# EAGLE library part ICM-20689 (library kiks-ic)
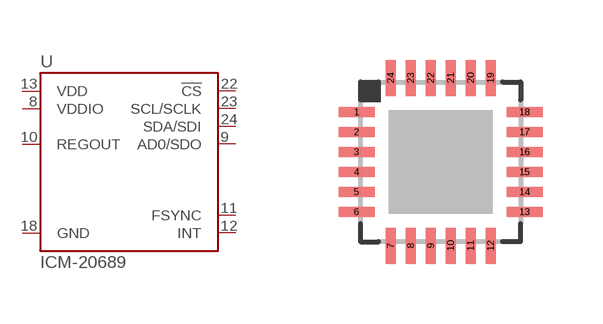
[diagram p17: symbol with the pads of QFN24-0.5-INVEN; footprint QFN24-0.5-INVEN]

Designator prefix U

## ICM-20689  [QFN24-0.5-INVEN]
8  VDDIO
9  AD0/SDO
10  REGOUT
11  FSYNC
12  INT
13  VDD
18  GND
22  !CS
23  SCL/SCLK
24  SDA/SDI

## Footprint QFN24-0.5-INVEN (pad centres in mm)
smd 0.9 x 0.25: 1 -2.1,1.25; 2 -2.1,0.75; 3 -2.1,0.25; 4 -2.1,-0.25; 5 -2.1,-0.75; 6 -2.1,-1.25; 13 2.1,-1.25; 14 2.1,-0.75; 15 2.1,-0.25; 16 2.1,0.25; 17 2.1,0.75; 18 2.1,1.25
smd 0.25 x 0.9: 7 -1.25,-2.1; 8 -0.75,-2.1; 9 -0.25,-2.1; 10 0.25,-2.1; 11 0.75,-2.1; 12 1.25,-2.1; 19 1.25,2.1; 20 0.75,2.1; 21 0.25,2.1; 22 -0.25,2.1; 23 -0.75,2.1; 24 -1.25,2.1